# EAGLE library part 535512-16_S (library con-tyco-modu)
RECEPTACAL
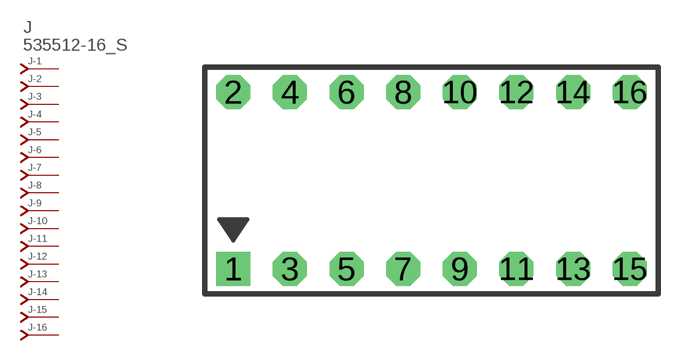
[diagram p22: symbol with the pads of 535512-16; footprint 535512-16]

Designator prefix J; gates -1=J-NV -2=J-N -3=J-N -4=J-N -5=J-N -6=J-N -7=J-N -8=J-N -9=J-N -10=J-N -11=J-N -12=J-N -13=J-N -14=J-N -15=J-N -16=J-N

## 535512-16_S  [535512-16]
1  -1:J  pas
2  -2:J  pas
3  -3:J  pas
4  -4:J  pas
5  -5:J  pas
6  -6:J  pas
7  -7:J  pas
8  -8:J  pas
9  -9:J  pas
10  -10:J  pas
11  -11:J  pas
12  -12:J  pas
13  -13:J  pas
14  -14:J  pas
15  -15:J  pas
16  -16:J  pas

## Footprint 535512-16 (pad centres in mm)
AMPMODU - 535512 Series
drill 1.016 square: 1 -8.89,0
drill 1.016 octagon: 2 -8.89,7.938; 3 -6.35,0; 4 -6.35,7.938; 5 -3.81,0; 6 -3.81,7.938; 7 -1.27,0; 8 -1.27,7.938; 9 1.27,0; 10 1.27,7.938; 11 3.81,0; 12 3.81,7.938; 13 6.35,0; 14 6.35,7.938; 15 8.89,0; 16 8.89,7.938